# Altium schematic symbol library Индикаторы.SchLib: 10 symbols
Pins are listed as number, name and electrical type; pins without a type are passive.

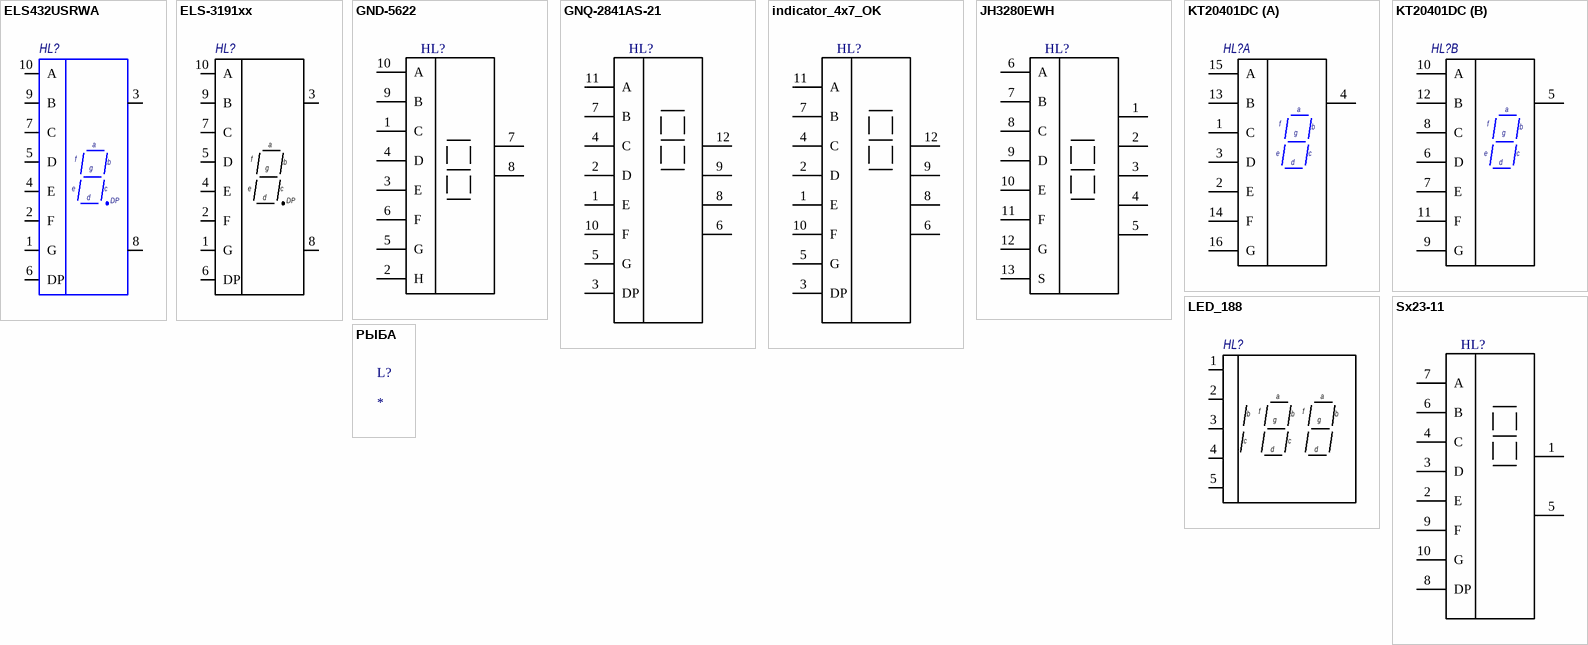
[diagram p0: symbols ELS432USRWA to РЫБА]

## ELS432USRWA
designator HL?, comment Индикатор семисегментный 3191BS 10мм x 13мм x 7мм "XLITX Technology"  (value not drawn)
Value: Общий анод; Voltage: 2-2.2V; Manufacturer: XLITX Technology; Package: 10мм x 13мм x 7мм; Part Number: 3191BS; URL: http://www.xlitx.com/datasheet/3611BS.pdf; ComponentType: Индикатор семисегментный; ManufacturerPartNumber: 3191BS
footprint 3191BS
footprint 3191BS 2 var
pins: 1 G (power), 2 F (power), 3 Com (power), 4 E (power), 5 D (power), 6 DP (power), 7 C (power), 8 Com (power), 9 B (power), 10 A (power)
text: a; f; g; b; e; c; d

## ELS-3191xx
designator HL?
pins: 1 G (power), 2 F (power), 3 Com (power), 4 E (power), 5 D (power), 6 DP (power), 7 C (power), 8 Com (power), 9 B (power), 10 A (power)
text: a; f; g; b; e; c; d

## GND-5622
designator HL?, comment JH3280EWH  (value not drawn)
HL; Value: JH3280EWH
footprint JH3280EWH-3S-T1
pins: 1 C, 2 H, 3 E, 4 D, 5 G, 6 F, 7, 8, 9 B, 10 A

## GNQ-2841AS-21
designator HL?  (value not drawn)
pins: 1 E, 2 D, 3 DP, 4 C, 5 G, 6 OK_4, 7 B, 8 OK_3, 9 OK_2, 10 F, 11 A, 12 OK_1

## indicator_4x7_OK
designator HL?  (value not drawn)
pins: 1 E, 2 D, 3 DP, 4 C, 5 G, 6 OK_4, 7 B, 8 OK_3, 9 OK_2, 10 F, 11 A, 12 OK_1

## JH3280EWH
designator HL?  (value not drawn)
HL; Value: JH3280EWH
footprint JH3280EWH-3S-T1
pins: 1, 2, 3, 4, 5, 6 A, 7 B, 8 C, 9 D, 10 E, 11 F, 12 G, 13 S

## KT20401DC
designator HL?
footprint 3191BS
footprint 3191BS 2 var
part A pins: 1 C (power), 2 E (power), 3 D (power), 4 Com (power), 13 B (power), 14 F (power), 15 A (power), 16 G (power)
part B pins: 5 Com (power), 6 D (power), 7 E (power), 8 C (power), 9 G (power), 10 A (power), 11 F (power), 12 B (power)
part A text: a; f; b; g; e; c; d
part B text: a; f; b; g; e; c; d

## LED_188
designator HL?
pins: 1 (power), 2 (power), 3 (power), 4 (power), 5 (power)
text: a; f; b; g; c; d

## Sx23-11
designator HL?  (value not drawn)
pins: 1 OA_1, 2 E, 3 D, 4 C, 5 OA_2, 6 B, 7 A, 8 DP, 9 F, 10 G

## РЫБА
designator L?
Rem: *; Package: *; Value: *; Tolerance: *; Power/Voltage: *; TKE: *; ManufacturerPartNumber: *; Manufacturer: *; Quantity: *; Примечание: *; Price: *